# Altium schematic symbol library SRV05-4-P-T7.Schlib: 1 symbol
Pins are listed as number, name and electrical type; pins without a type are passive.

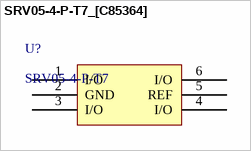
[diagram p0: symbol SRV05-4-P-T7_[C85364]]

## SRV05-4-P-T7_[C85364]
designator U?, comment SRV05-4-P-T7
TVS
footprint SOT-23-6
pins: 1 I/O , 2 GND, 3 I/O, 4 I/O, 5 REF, 6 I/O